# EAGLE library part DE09-PA-M1 (library DE09-PA-M1)
9 Position D-Sub Plug, Male Pins Connector , UL94 V-0 , 250VAC , -65C ~ 125C Source: Datasheet <https://app.adam-tech.com/products/download/data_sheet/198632/dxxx-pa-m1-data-sheet.pdf>
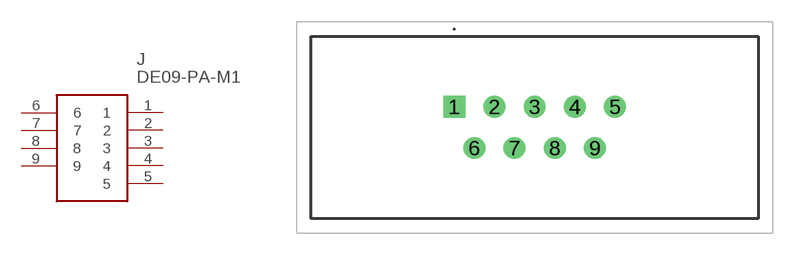
[diagram p0: symbol with the pads of DE09PAM1; footprint DE09PAM1]

Designator prefix J

## DE09-PA-M1 (Description: 9 Position D-Sub Plug, Male Pins Connector , UL94 V-0 , 250VAC , -65C ~ 125C; Height: 12.4714mm; Manufacturer_Name: Adam Tech; Manufacturer_Part_Number: DE09-PA-M1; Mouser_Part_Number: 737-DE09-PA-M1; Mouser_Price-Stock: https://www.mouser.co.uk/ProductDetail/Adam-Tech/DE09-PA-M1?qs=HoCaDK9Nz5dJl%252BJp%252BOux4g%3D%3D)  [DE09PAM1]
1  1
2  2
3  3
4  4
5  5
6  6
7  7
8  8
9  9

## Footprint DE09PAM1 (pad centres in mm)
DE09-PA-M1-1
drill 1 pad 1.5 square: 1 0,0
drill 1 pad 1.5: 2 2.77,0; 3 5.54,0; 4 8.31,0; 5 11.08,0; 6 1.385,-2.84; 7 4.155,-2.84; 8 6.925,-2.84; 9 9.695,-2.84